# EAGLE library part NCP380 (library on-semiconductor)
Fixed / Adjustable Current-limiting Power Distribution Switches The NCP380 is a high side power−distribution switch designed for applications where heavy capacitive loads and short−circuits are likely to be encountered. The device includes an integrated 55 mOhm (DFN package), P−channel MOSFET. The device limits the output current to a desired level by switching into a constant−current regulation mode when the output load exceeds the current−limit threshold or a short is present. The current−limit threshold is either user adjustable between 100 mA and 2.1 A via an external resistor or internally fixed. The power−switch rise and fall times are controlled to minimize current ringing during switching. An internal reverse−voltage detection comparator disables the power−switch if the output voltage is higher than the input voltage to protect devices on the input side of the switch. The FLAG logic output asserts low during over current, reverse−voltage or over temperature conditions. The switch is controlled by a logic enable input active high or low.
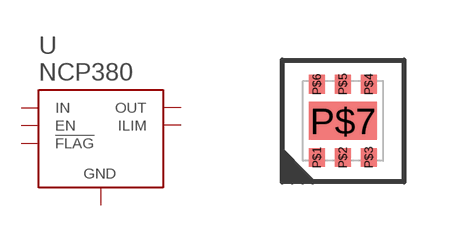
[diagram p4: symbol with the pads of UDFN-6-2X2; footprint UDFN-6-2X2]

Designator prefix U

## NCP380  [UDFN-6-2X2]
P$1  OUT
P$2  ILIM
P$3  !FLAG
P$4  EN
P$5  GND
P$6  IN
P$7  GND

## Footprint UDFN-6-2X2 (pad centres in mm)
smd 0.4 x 0.47: P$1 -0.65,-0.915; P$2 0,-0.915; P$3 0.65,-0.915; P$4 0.65,0.915; P$5 0,0.915; P$6 -0.65,0.915
smd 1.7 x 0.95: P$7 0,0